# Altium schematic symbol library RC0805.SchLib: 789 symbols (part 7 of 11)
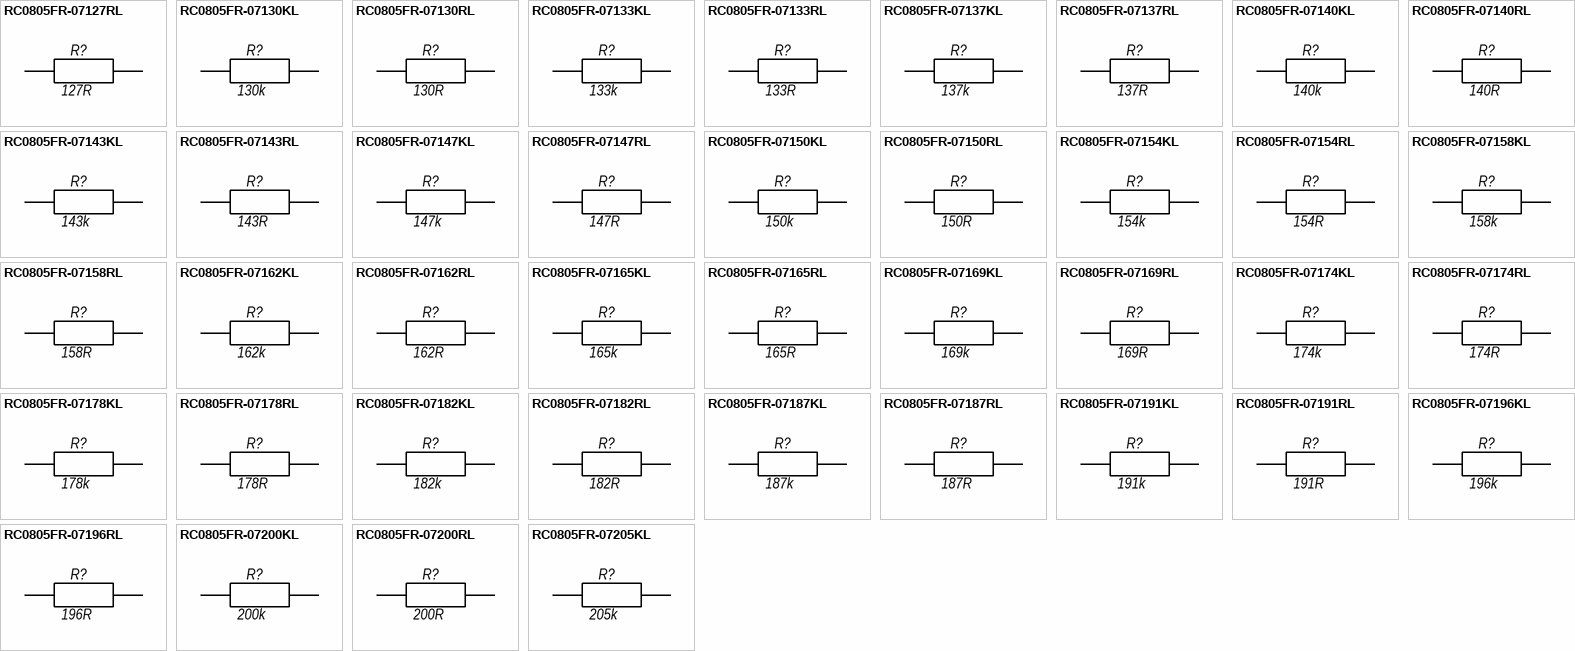
[diagram p25: symbols RC0805FR-07127RL to RC0805FR-07205KL]

## RC0805FR-07178RL
designator R?, comment 178R
RC0805FR-07178RL 0805 178 Ohm ±1% 1/8W 0805 SMD -55C...+155C; Manufacturer: Yageo; BOM2: 178 Ом ±1%, 1/8 Вт, SMD 0805, RC0805FR-07178RL; ValueBOM: RC0805FR-07178RL   Yageo                            (178 Ом ±1%, 1/8 Вт, SMD 0805, RC0805FR-07178RL); Value: 178R; Part Number: RC0805FR-07178RL; Package: 0805; BOM1: 178 Ohm ±1% 1/8W 0805 SMD
footprint RESC_0805_2012N (Chip Resistor, Body 2.0x1.3mm, IPC Medium Density)
footprint RESC_0805_2012M (Chip Resistor, Body 2.0x1.3mm, IPC Low Density)
footprint RESC_0805_2012L (Chip Resistor, Body 2.0x1.3mm, IPC High Density)
pins: 1, 2

## RC0805FR-07182KL
designator R?, comment 182k
RC0805FR-07182KL 0805 182 kOhm ±1% 1/8W 0805 SMD -55C...+155C; Manufacturer: Yageo; BOM2: 182 кОм ±1%, 1/8 Вт, SMD 0805, RC0805FR-07182KL; ValueBOM: RC0805FR-07182KL   Yageo                            (182 кОм ±1%, 1/8 Вт, SMD 0805, RC0805FR-07182KL); Value: 182k; Part Number: RC0805FR-07182KL; Package: 0805; BOM1: 182 kOhm ±1% 1/8W 0805 SMD
footprint RESC_0805_2012N (Chip Resistor, Body 2.0x1.3mm, IPC Medium Density)
footprint RESC_0805_2012M (Chip Resistor, Body 2.0x1.3mm, IPC Low Density)
footprint RESC_0805_2012L (Chip Resistor, Body 2.0x1.3mm, IPC High Density)
pins: 1, 2

## RC0805FR-07182RL
designator R?, comment 182R
RC0805FR-07182RL 0805 182 Ohm ±1% 1/8W 0805 SMD -55C...+155C; Manufacturer: Yageo; BOM2: 182 Ом ±1%, 1/8 Вт, SMD 0805, RC0805FR-07182RL; ValueBOM: RC0805FR-07182RL   Yageo                            (182 Ом ±1%, 1/8 Вт, SMD 0805, RC0805FR-07182RL); Value: 182R; Part Number: RC0805FR-07182RL; Package: 0805; BOM1: 182 Ohm ±1% 1/8W 0805 SMD
footprint RESC_0805_2012N (Chip Resistor, Body 2.0x1.3mm, IPC Medium Density)
footprint RESC_0805_2012M (Chip Resistor, Body 2.0x1.3mm, IPC Low Density)
footprint RESC_0805_2012L (Chip Resistor, Body 2.0x1.3mm, IPC High Density)
pins: 1, 2

## RC0805FR-07187KL
designator R?, comment 187k
RC0805FR-07187KL 0805 187 kOhm ±1% 1/8W 0805 SMD -55C...+155C; Manufacturer: Yageo; BOM2: 187 кОм ±1%, 1/8 Вт, SMD 0805, RC0805FR-07187KL; ValueBOM: RC0805FR-07187KL   Yageo                            (187 кОм ±1%, 1/8 Вт, SMD 0805, RC0805FR-07187KL); Value: 187k; Part Number: RC0805FR-07187KL; Package: 0805; BOM1: 187 kOhm ±1% 1/8W 0805 SMD
footprint RESC_0805_2012N (Chip Resistor, Body 2.0x1.3mm, IPC Medium Density)
footprint RESC_0805_2012M (Chip Resistor, Body 2.0x1.3mm, IPC Low Density)
footprint RESC_0805_2012L (Chip Resistor, Body 2.0x1.3mm, IPC High Density)
pins: 1, 2

## RC0805FR-07187RL
designator R?, comment 187R
RC0805FR-07187RL 0805 187 Ohm ±1% 1/8W 0805 SMD -55C...+155C; Manufacturer: Yageo; BOM2: 187 Ом ±1%, 1/8 Вт, SMD 0805, RC0805FR-07187RL; ValueBOM: RC0805FR-07187RL   Yageo                            (187 Ом ±1%, 1/8 Вт, SMD 0805, RC0805FR-07187RL); Value: 187R; Part Number: RC0805FR-07187RL; Package: 0805; BOM1: 187 Ohm ±1% 1/8W 0805 SMD
footprint RESC_0805_2012N (Chip Resistor, Body 2.0x1.3mm, IPC Medium Density)
footprint RESC_0805_2012M (Chip Resistor, Body 2.0x1.3mm, IPC Low Density)
footprint RESC_0805_2012L (Chip Resistor, Body 2.0x1.3mm, IPC High Density)
pins: 1, 2

## RC0805FR-07191KL
designator R?, comment 191k
RC0805FR-07191KL 0805 191 kOhm ±1% 1/8W 0805 SMD -55C...+155C; Manufacturer: Yageo; BOM2: 191 кОм ±1%, 1/8 Вт, SMD 0805, RC0805FR-07191KL; ValueBOM: RC0805FR-07191KL   Yageo                            (191 кОм ±1%, 1/8 Вт, SMD 0805, RC0805FR-07191KL); Value: 191k; Part Number: RC0805FR-07191KL; Package: 0805; BOM1: 191 kOhm ±1% 1/8W 0805 SMD
footprint RESC_0805_2012N (Chip Resistor, Body 2.0x1.3mm, IPC Medium Density)
footprint RESC_0805_2012M (Chip Resistor, Body 2.0x1.3mm, IPC Low Density)
footprint RESC_0805_2012L (Chip Resistor, Body 2.0x1.3mm, IPC High Density)
pins: 1, 2

## RC0805FR-07191RL
designator R?, comment 191R
RC0805FR-07191RL 0805 191 Ohm ±1% 1/8W 0805 SMD -55C...+155C; Manufacturer: Yageo; BOM2: 191 Ом ±1%, 1/8 Вт, SMD 0805, RC0805FR-07191RL; ValueBOM: RC0805FR-07191RL   Yageo                            (191 Ом ±1%, 1/8 Вт, SMD 0805, RC0805FR-07191RL); Value: 191R; Part Number: RC0805FR-07191RL; Package: 0805; BOM1: 191 Ohm ±1% 1/8W 0805 SMD
footprint RESC_0805_2012N (Chip Resistor, Body 2.0x1.3mm, IPC Medium Density)
footprint RESC_0805_2012M (Chip Resistor, Body 2.0x1.3mm, IPC Low Density)
footprint RESC_0805_2012L (Chip Resistor, Body 2.0x1.3mm, IPC High Density)
pins: 1, 2

## RC0805FR-07196KL
designator R?, comment 196k
RC0805FR-07196KL 0805 196 kOhm ±1% 1/8W 0805 SMD -55C...+155C; Manufacturer: Yageo; BOM2: 196 кОм ±1%, 1/8 Вт, SMD 0805, RC0805FR-07196KL; ValueBOM: RC0805FR-07196KL   Yageo                            (196 кОм ±1%, 1/8 Вт, SMD 0805, RC0805FR-07196KL); Value: 196k; Part Number: RC0805FR-07196KL; Package: 0805; BOM1: 196 kOhm ±1% 1/8W 0805 SMD
footprint RESC_0805_2012N (Chip Resistor, Body 2.0x1.3mm, IPC Medium Density)
footprint RESC_0805_2012M (Chip Resistor, Body 2.0x1.3mm, IPC Low Density)
footprint RESC_0805_2012L (Chip Resistor, Body 2.0x1.3mm, IPC High Density)
pins: 1, 2

## RC0805FR-07196RL
designator R?, comment 196R
RC0805FR-07196RL 0805 196 Ohm ±1% 1/8W 0805 SMD -55C...+155C; Manufacturer: Yageo; BOM2: 196 Ом ±1%, 1/8 Вт, SMD 0805, RC0805FR-07196RL; ValueBOM: RC0805FR-07196RL   Yageo                            (196 Ом ±1%, 1/8 Вт, SMD 0805, RC0805FR-07196RL); Value: 196R; Part Number: RC0805FR-07196RL; Package: 0805; BOM1: 196 Ohm ±1% 1/8W 0805 SMD
footprint RESC_0805_2012N (Chip Resistor, Body 2.0x1.3mm, IPC Medium Density)
footprint RESC_0805_2012M (Chip Resistor, Body 2.0x1.3mm, IPC Low Density)
footprint RESC_0805_2012L (Chip Resistor, Body 2.0x1.3mm, IPC High Density)
pins: 1, 2

## RC0805FR-07200KL
designator R?, comment 200k
RC0805FR-07200KL 0805 200 kOhm ±1% 1/8W 0805 SMD -55C...+155C; Manufacturer: Yageo; BOM2: 200 кОм ±1%, 1/8 Вт, SMD 0805, RC0805FR-07200KL; ValueBOM: RC0805FR-07200KL   Yageo                            (200 кОм ±1%, 1/8 Вт, SMD 0805, RC0805FR-07200KL); Value: 200k; Part Number: RC0805FR-07200KL; Package: 0805; BOM1: 200 kOhm ±1% 1/8W 0805 SMD
footprint RESC_0805_2012N (Chip Resistor, Body 2.0x1.3mm, IPC Medium Density)
footprint RESC_0805_2012M (Chip Resistor, Body 2.0x1.3mm, IPC Low Density)
footprint RESC_0805_2012L (Chip Resistor, Body 2.0x1.3mm, IPC High Density)
pins: 1, 2

## RC0805FR-07200RL
designator R?, comment 200R
RC0805FR-07200RL 0805 200 Ohm ±1% 1/8W 0805 SMD -55C...+155C; Manufacturer: Yageo; BOM2: 200 Ом ±1%, 1/8 Вт, SMD 0805, RC0805FR-07200RL; ValueBOM: RC0805FR-07200RL   Yageo                            (200 Ом ±1%, 1/8 Вт, SMD 0805, RC0805FR-07200RL); Value: 200R; Part Number: RC0805FR-07200RL; Package: 0805; BOM1: 200 Ohm ±1% 1/8W 0805 SMD
footprint RESC_0805_2012N (Chip Resistor, Body 2.0x1.3mm, IPC Medium Density)
footprint RESC_0805_2012M (Chip Resistor, Body 2.0x1.3mm, IPC Low Density)
footprint RESC_0805_2012L (Chip Resistor, Body 2.0x1.3mm, IPC High Density)
pins: 1, 2

## RC0805FR-07205KL
designator R?, comment 205k
RC0805FR-07205KL 0805 205 kOhm ±1% 1/8W 0805 SMD -55C...+155C; Manufacturer: Yageo; BOM2: 205 кОм ±1%, 1/8 Вт, SMD 0805, RC0805FR-07205KL; ValueBOM: RC0805FR-07205KL   Yageo                            (205 кОм ±1%, 1/8 Вт, SMD 0805, RC0805FR-07205KL); Value: 205k; Part Number: RC0805FR-07205KL; Package: 0805; BOM1: 205 kOhm ±1% 1/8W 0805 SMD
footprint RESC_0805_2012N (Chip Resistor, Body 2.0x1.3mm, IPC Medium Density)
footprint RESC_0805_2012M (Chip Resistor, Body 2.0x1.3mm, IPC Low Density)
footprint RESC_0805_2012L (Chip Resistor, Body 2.0x1.3mm, IPC High Density)
pins: 1, 2

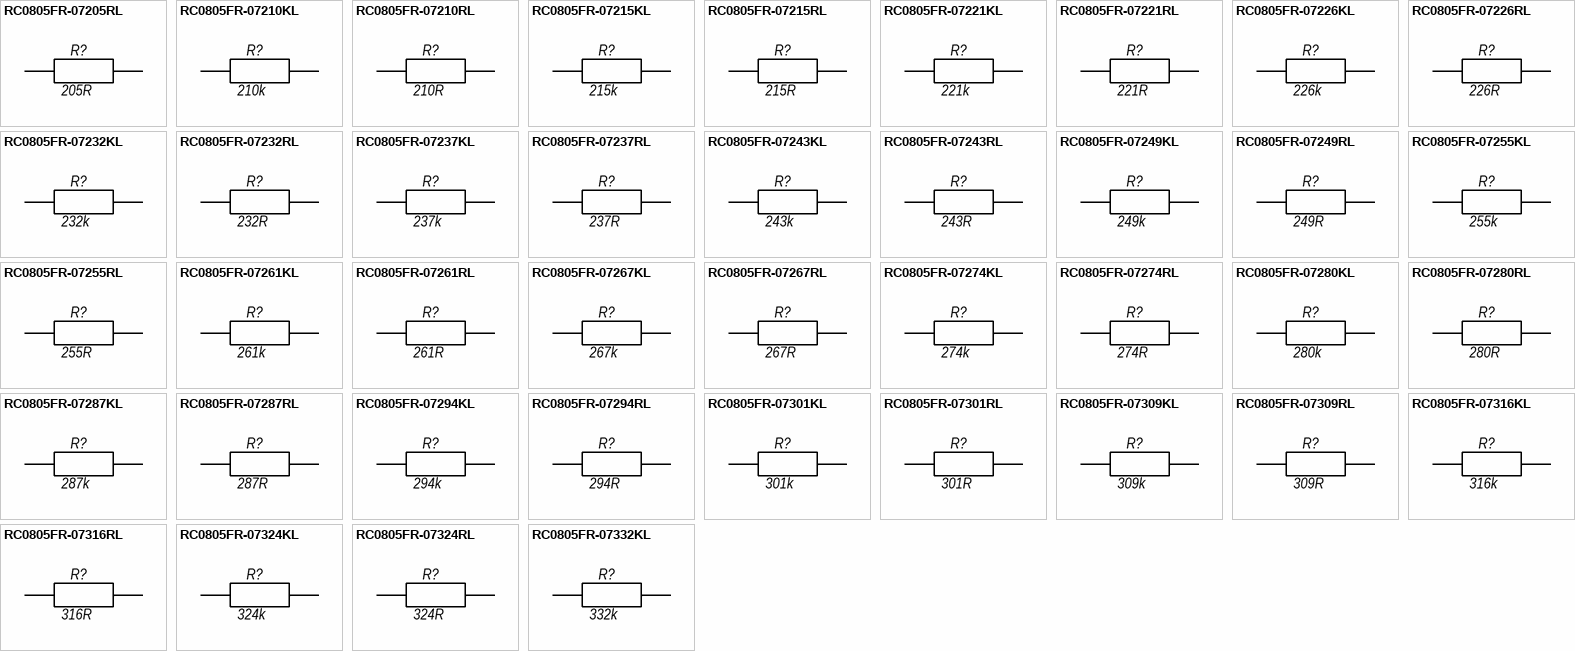
[diagram p12: symbols RC0805FR-07205RL to RC0805FR-07332KL]

## RC0805FR-07205RL
designator R?, comment 205R
RC0805FR-07205RL 0805 205 Ohm ±1% 1/8W 0805 SMD -55C...+155C; Manufacturer: Yageo; BOM2: 205 Ом ±1%, 1/8 Вт, SMD 0805, RC0805FR-07205RL; ValueBOM: RC0805FR-07205RL   Yageo                            (205 Ом ±1%, 1/8 Вт, SMD 0805, RC0805FR-07205RL); Value: 205R; Part Number: RC0805FR-07205RL; Package: 0805; BOM1: 205 Ohm ±1% 1/8W 0805 SMD
footprint RESC_0805_2012N (Chip Resistor, Body 2.0x1.3mm, IPC Medium Density)
footprint RESC_0805_2012M (Chip Resistor, Body 2.0x1.3mm, IPC Low Density)
footprint RESC_0805_2012L (Chip Resistor, Body 2.0x1.3mm, IPC High Density)
pins: 1, 2

## RC0805FR-07210KL
designator R?, comment 210k
RC0805FR-07210KL 0805 210 kOhm ±1% 1/8W 0805 SMD -55C...+155C; Manufacturer: Yageo; BOM2: 210 кОм ±1%, 1/8 Вт, SMD 0805, RC0805FR-07210KL; ValueBOM: RC0805FR-07210KL   Yageo                            (210 кОм ±1%, 1/8 Вт, SMD 0805, RC0805FR-07210KL); Value: 210k; Part Number: RC0805FR-07210KL; Package: 0805; BOM1: 210 kOhm ±1% 1/8W 0805 SMD
footprint RESC_0805_2012N (Chip Resistor, Body 2.0x1.3mm, IPC Medium Density)
footprint RESC_0805_2012M (Chip Resistor, Body 2.0x1.3mm, IPC Low Density)
footprint RESC_0805_2012L (Chip Resistor, Body 2.0x1.3mm, IPC High Density)
pins: 1, 2

## RC0805FR-07210RL
designator R?, comment 210R
RC0805FR-07210RL 0805 210 Ohm ±1% 1/8W 0805 SMD -55C...+155C; Manufacturer: Yageo; BOM2: 210 Ом ±1%, 1/8 Вт, SMD 0805, RC0805FR-07210RL; ValueBOM: RC0805FR-07210RL   Yageo                            (210 Ом ±1%, 1/8 Вт, SMD 0805, RC0805FR-07210RL); Value: 210R; Part Number: RC0805FR-07210RL; Package: 0805; BOM1: 210 Ohm ±1% 1/8W 0805 SMD
footprint RESC_0805_2012N (Chip Resistor, Body 2.0x1.3mm, IPC Medium Density)
footprint RESC_0805_2012M (Chip Resistor, Body 2.0x1.3mm, IPC Low Density)
footprint RESC_0805_2012L (Chip Resistor, Body 2.0x1.3mm, IPC High Density)
pins: 1, 2

## RC0805FR-07215KL
designator R?, comment 215k
RC0805FR-07215KL 0805 215 kOhm ±1% 1/8W 0805 SMD -55C...+155C; Manufacturer: Yageo; BOM2: 215 кОм ±1%, 1/8 Вт, SMD 0805, RC0805FR-07215KL; ValueBOM: RC0805FR-07215KL   Yageo                            (215 кОм ±1%, 1/8 Вт, SMD 0805, RC0805FR-07215KL); Value: 215k; Part Number: RC0805FR-07215KL; Package: 0805; BOM1: 215 kOhm ±1% 1/8W 0805 SMD
footprint RESC_0805_2012N (Chip Resistor, Body 2.0x1.3mm, IPC Medium Density)
footprint RESC_0805_2012M (Chip Resistor, Body 2.0x1.3mm, IPC Low Density)
footprint RESC_0805_2012L (Chip Resistor, Body 2.0x1.3mm, IPC High Density)
pins: 1, 2

## RC0805FR-07215RL
designator R?, comment 215R
RC0805FR-07215RL 0805 215 Ohm ±1% 1/8W 0805 SMD -55C...+155C; Manufacturer: Yageo; BOM2: 215 Ом ±1%, 1/8 Вт, SMD 0805, RC0805FR-07215RL; ValueBOM: RC0805FR-07215RL   Yageo                            (215 Ом ±1%, 1/8 Вт, SMD 0805, RC0805FR-07215RL); Value: 215R; Part Number: RC0805FR-07215RL; Package: 0805; BOM1: 215 Ohm ±1% 1/8W 0805 SMD
footprint RESC_0805_2012N (Chip Resistor, Body 2.0x1.3mm, IPC Medium Density)
footprint RESC_0805_2012M (Chip Resistor, Body 2.0x1.3mm, IPC Low Density)
footprint RESC_0805_2012L (Chip Resistor, Body 2.0x1.3mm, IPC High Density)
pins: 1, 2

## RC0805FR-07221KL
designator R?, comment 221k
RC0805FR-07221KL 0805 221 kOhm ±1% 1/8W 0805 SMD -55C...+155C; Manufacturer: Yageo; BOM2: 221 кОм ±1%, 1/8 Вт, SMD 0805, RC0805FR-07221KL; ValueBOM: RC0805FR-07221KL   Yageo                            (221 кОм ±1%, 1/8 Вт, SMD 0805, RC0805FR-07221KL); Value: 221k; Part Number: RC0805FR-07221KL; Package: 0805; BOM1: 221 kOhm ±1% 1/8W 0805 SMD
footprint RESC_0805_2012N (Chip Resistor, Body 2.0x1.3mm, IPC Medium Density)
footprint RESC_0805_2012M (Chip Resistor, Body 2.0x1.3mm, IPC Low Density)
footprint RESC_0805_2012L (Chip Resistor, Body 2.0x1.3mm, IPC High Density)
pins: 1, 2

## RC0805FR-07221RL
designator R?, comment 221R
RC0805FR-07221RL 0805 221 Ohm ±1% 1/8W 0805 SMD -55C...+155C; Manufacturer: Yageo; BOM2: 221 Ом ±1%, 1/8 Вт, SMD 0805, RC0805FR-07221RL; ValueBOM: RC0805FR-07221RL   Yageo                            (221 Ом ±1%, 1/8 Вт, SMD 0805, RC0805FR-07221RL); Value: 221R; Part Number: RC0805FR-07221RL; Package: 0805; BOM1: 221 Ohm ±1% 1/8W 0805 SMD
footprint RESC_0805_2012N (Chip Resistor, Body 2.0x1.3mm, IPC Medium Density)
footprint RESC_0805_2012M (Chip Resistor, Body 2.0x1.3mm, IPC Low Density)
footprint RESC_0805_2012L (Chip Resistor, Body 2.0x1.3mm, IPC High Density)
pins: 1, 2

## RC0805FR-07226KL
designator R?, comment 226k
RC0805FR-07226KL 0805 226 kOhm ±1% 1/8W 0805 SMD -55C...+155C; Manufacturer: Yageo; BOM2: 226 кОм ±1%, 1/8 Вт, SMD 0805, RC0805FR-07226KL; ValueBOM: RC0805FR-07226KL   Yageo                            (226 кОм ±1%, 1/8 Вт, SMD 0805, RC0805FR-07226KL); Value: 226k; Part Number: RC0805FR-07226KL; Package: 0805; BOM1: 226 kOhm ±1% 1/8W 0805 SMD
footprint RESC_0805_2012N (Chip Resistor, Body 2.0x1.3mm, IPC Medium Density)
footprint RESC_0805_2012M (Chip Resistor, Body 2.0x1.3mm, IPC Low Density)
footprint RESC_0805_2012L (Chip Resistor, Body 2.0x1.3mm, IPC High Density)
pins: 1, 2

## RC0805FR-07226RL
designator R?, comment 226R
RC0805FR-07226RL 0805 226 Ohm ±1% 1/8W 0805 SMD -55C...+155C; Manufacturer: Yageo; BOM2: 226 Ом ±1%, 1/8 Вт, SMD 0805, RC0805FR-07226RL; ValueBOM: RC0805FR-07226RL   Yageo                            (226 Ом ±1%, 1/8 Вт, SMD 0805, RC0805FR-07226RL); Value: 226R; Part Number: RC0805FR-07226RL; Package: 0805; BOM1: 226 Ohm ±1% 1/8W 0805 SMD
footprint RESC_0805_2012N (Chip Resistor, Body 2.0x1.3mm, IPC Medium Density)
footprint RESC_0805_2012M (Chip Resistor, Body 2.0x1.3mm, IPC Low Density)
footprint RESC_0805_2012L (Chip Resistor, Body 2.0x1.3mm, IPC High Density)
pins: 1, 2

## RC0805FR-07232KL
designator R?, comment 232k
RC0805FR-07232KL 0805 232 kOhm ±1% 1/8W 0805 SMD -55C...+155C; Manufacturer: Yageo; BOM2: 232 кОм ±1%, 1/8 Вт, SMD 0805, RC0805FR-07232KL; ValueBOM: RC0805FR-07232KL   Yageo                            (232 кОм ±1%, 1/8 Вт, SMD 0805, RC0805FR-07232KL); Value: 232k; Part Number: RC0805FR-07232KL; Package: 0805; BOM1: 232 kOhm ±1% 1/8W 0805 SMD
footprint RESC_0805_2012N (Chip Resistor, Body 2.0x1.3mm, IPC Medium Density)
footprint RESC_0805_2012M (Chip Resistor, Body 2.0x1.3mm, IPC Low Density)
footprint RESC_0805_2012L (Chip Resistor, Body 2.0x1.3mm, IPC High Density)
pins: 1, 2

## RC0805FR-07232RL
designator R?, comment 232R
RC0805FR-07232RL 0805 232 Ohm ±1% 1/8W 0805 SMD -55C...+155C; Manufacturer: Yageo; BOM2: 232 Ом ±1%, 1/8 Вт, SMD 0805, RC0805FR-07232RL; ValueBOM: RC0805FR-07232RL   Yageo                            (232 Ом ±1%, 1/8 Вт, SMD 0805, RC0805FR-07232RL); Value: 232R; Part Number: RC0805FR-07232RL; Package: 0805; BOM1: 232 Ohm ±1% 1/8W 0805 SMD
footprint RESC_0805_2012N (Chip Resistor, Body 2.0x1.3mm, IPC Medium Density)
footprint RESC_0805_2012M (Chip Resistor, Body 2.0x1.3mm, IPC Low Density)
footprint RESC_0805_2012L (Chip Resistor, Body 2.0x1.3mm, IPC High Density)
pins: 1, 2

## RC0805FR-07237KL
designator R?, comment 237k
RC0805FR-07237KL 0805 237 kOhm ±1% 1/8W 0805 SMD -55C...+155C; Manufacturer: Yageo; BOM2: 237 кОм ±1%, 1/8 Вт, SMD 0805, RC0805FR-07237KL; ValueBOM: RC0805FR-07237KL   Yageo                            (237 кОм ±1%, 1/8 Вт, SMD 0805, RC0805FR-07237KL); Value: 237k; Part Number: RC0805FR-07237KL; Package: 0805; BOM1: 237 kOhm ±1% 1/8W 0805 SMD
footprint RESC_0805_2012N (Chip Resistor, Body 2.0x1.3mm, IPC Medium Density)
footprint RESC_0805_2012M (Chip Resistor, Body 2.0x1.3mm, IPC Low Density)
footprint RESC_0805_2012L (Chip Resistor, Body 2.0x1.3mm, IPC High Density)
pins: 1, 2

## RC0805FR-07237RL
designator R?, comment 237R
RC0805FR-07237RL 0805 237 Ohm ±1% 1/8W 0805 SMD -55C...+155C; Manufacturer: Yageo; BOM2: 237 Ом ±1%, 1/8 Вт, SMD 0805, RC0805FR-07237RL; ValueBOM: RC0805FR-07237RL   Yageo                            (237 Ом ±1%, 1/8 Вт, SMD 0805, RC0805FR-07237RL); Value: 237R; Part Number: RC0805FR-07237RL; Package: 0805; BOM1: 237 Ohm ±1% 1/8W 0805 SMD
footprint RESC_0805_2012N (Chip Resistor, Body 2.0x1.3mm, IPC Medium Density)
footprint RESC_0805_2012M (Chip Resistor, Body 2.0x1.3mm, IPC Low Density)
footprint RESC_0805_2012L (Chip Resistor, Body 2.0x1.3mm, IPC High Density)
pins: 1, 2

## RC0805FR-07243KL
designator R?, comment 243k
RC0805FR-07243KL 0805 243 kOhm ±1% 1/8W 0805 SMD -55C...+155C; Manufacturer: Yageo; BOM2: 243 кОм ±1%, 1/8 Вт, SMD 0805, RC0805FR-07243KL; ValueBOM: RC0805FR-07243KL   Yageo                            (243 кОм ±1%, 1/8 Вт, SMD 0805, RC0805FR-07243KL); Value: 243k; Part Number: RC0805FR-07243KL; Package: 0805; BOM1: 243 kOhm ±1% 1/8W 0805 SMD
footprint RESC_0805_2012N (Chip Resistor, Body 2.0x1.3mm, IPC Medium Density)
footprint RESC_0805_2012M (Chip Resistor, Body 2.0x1.3mm, IPC Low Density)
footprint RESC_0805_2012L (Chip Resistor, Body 2.0x1.3mm, IPC High Density)
pins: 1, 2

## RC0805FR-07243RL
designator R?, comment 243R
RC0805FR-07243RL 0805 243 Ohm ±1% 1/8W 0805 SMD -55C...+155C; Manufacturer: Yageo; BOM2: 243 Ом ±1%, 1/8 Вт, SMD 0805, RC0805FR-07243RL; ValueBOM: RC0805FR-07243RL   Yageo                            (243 Ом ±1%, 1/8 Вт, SMD 0805, RC0805FR-07243RL); Value: 243R; Part Number: RC0805FR-07243RL; Package: 0805; BOM1: 243 Ohm ±1% 1/8W 0805 SMD
footprint RESC_0805_2012N (Chip Resistor, Body 2.0x1.3mm, IPC Medium Density)
footprint RESC_0805_2012M (Chip Resistor, Body 2.0x1.3mm, IPC Low Density)
footprint RESC_0805_2012L (Chip Resistor, Body 2.0x1.3mm, IPC High Density)
pins: 1, 2

## RC0805FR-07249KL
designator R?, comment 249k
RC0805FR-07249KL 0805 249 kOhm ±1% 1/8W 0805 SMD -55C...+155C; Manufacturer: Yageo; BOM2: 249 кОм ±1%, 1/8 Вт, SMD 0805, RC0805FR-07249KL; ValueBOM: RC0805FR-07249KL   Yageo                            (249 кОм ±1%, 1/8 Вт, SMD 0805, RC0805FR-07249KL); Value: 249k; Part Number: RC0805FR-07249KL; Package: 0805; BOM1: 249 kOhm ±1% 1/8W 0805 SMD
footprint RESC_0805_2012N (Chip Resistor, Body 2.0x1.3mm, IPC Medium Density)
footprint RESC_0805_2012M (Chip Resistor, Body 2.0x1.3mm, IPC Low Density)
footprint RESC_0805_2012L (Chip Resistor, Body 2.0x1.3mm, IPC High Density)
pins: 1, 2

## RC0805FR-07249RL
designator R?, comment 249R
RC0805FR-07249RL 0805 249 Ohm ±1% 1/8W 0805 SMD -55C...+155C; Manufacturer: Yageo; BOM2: 249 Ом ±1%, 1/8 Вт, SMD 0805, RC0805FR-07249RL; ValueBOM: RC0805FR-07249RL   Yageo                            (249 Ом ±1%, 1/8 Вт, SMD 0805, RC0805FR-07249RL); Value: 249R; Part Number: RC0805FR-07249RL; Package: 0805; BOM1: 249 Ohm ±1% 1/8W 0805 SMD
footprint RESC_0805_2012N (Chip Resistor, Body 2.0x1.3mm, IPC Medium Density)
footprint RESC_0805_2012M (Chip Resistor, Body 2.0x1.3mm, IPC Low Density)
footprint RESC_0805_2012L (Chip Resistor, Body 2.0x1.3mm, IPC High Density)
pins: 1, 2

## RC0805FR-07255KL
designator R?, comment 255k
RC0805FR-07255KL 0805 255 kOhm ±1% 1/8W 0805 SMD -55C...+155C; Manufacturer: Yageo; BOM2: 255 кОм ±1%, 1/8 Вт, SMD 0805, RC0805FR-07255KL; ValueBOM: RC0805FR-07255KL   Yageo                            (255 кОм ±1%, 1/8 Вт, SMD 0805, RC0805FR-07255KL); Value: 255k; Part Number: RC0805FR-07255KL; Package: 0805; BOM1: 255 kOhm ±1% 1/8W 0805 SMD
footprint RESC_0805_2012N (Chip Resistor, Body 2.0x1.3mm, IPC Medium Density)
footprint RESC_0805_2012M (Chip Resistor, Body 2.0x1.3mm, IPC Low Density)
footprint RESC_0805_2012L (Chip Resistor, Body 2.0x1.3mm, IPC High Density)
pins: 1, 2

## RC0805FR-07255RL
designator R?, comment 255R
RC0805FR-07255RL 0805 255 Ohm ±1% 1/8W 0805 SMD -55C...+155C; Manufacturer: Yageo; BOM2: 255 Ом ±1%, 1/8 Вт, SMD 0805, RC0805FR-07255RL; ValueBOM: RC0805FR-07255RL   Yageo                            (255 Ом ±1%, 1/8 Вт, SMD 0805, RC0805FR-07255RL); Value: 255R; Part Number: RC0805FR-07255RL; Package: 0805; BOM1: 255 Ohm ±1% 1/8W 0805 SMD
footprint RESC_0805_2012N (Chip Resistor, Body 2.0x1.3mm, IPC Medium Density)
footprint RESC_0805_2012M (Chip Resistor, Body 2.0x1.3mm, IPC Low Density)
footprint RESC_0805_2012L (Chip Resistor, Body 2.0x1.3mm, IPC High Density)
pins: 1, 2

## RC0805FR-07261KL
designator R?, comment 261k
RC0805FR-07261KL 0805 261 kOhm ±1% 1/8W 0805 SMD -55C...+155C; Manufacturer: Yageo; BOM2: 261 кОм ±1%, 1/8 Вт, SMD 0805, RC0805FR-07261KL; ValueBOM: RC0805FR-07261KL   Yageo                            (261 кОм ±1%, 1/8 Вт, SMD 0805, RC0805FR-07261KL); Value: 261k; Part Number: RC0805FR-07261KL; Package: 0805; BOM1: 261 kOhm ±1% 1/8W 0805 SMD
footprint RESC_0805_2012N (Chip Resistor, Body 2.0x1.3mm, IPC Medium Density)
footprint RESC_0805_2012M (Chip Resistor, Body 2.0x1.3mm, IPC Low Density)
footprint RESC_0805_2012L (Chip Resistor, Body 2.0x1.3mm, IPC High Density)
pins: 1, 2

## RC0805FR-07261RL
designator R?, comment 261R
RC0805FR-07261RL 0805 261 Ohm ±1% 1/8W 0805 SMD -55C...+155C; Manufacturer: Yageo; BOM2: 261 Ом ±1%, 1/8 Вт, SMD 0805, RC0805FR-07261RL; ValueBOM: RC0805FR-07261RL   Yageo                            (261 Ом ±1%, 1/8 Вт, SMD 0805, RC0805FR-07261RL); Value: 261R; Part Number: RC0805FR-07261RL; Package: 0805; BOM1: 261 Ohm ±1% 1/8W 0805 SMD
footprint RESC_0805_2012N (Chip Resistor, Body 2.0x1.3mm, IPC Medium Density)
footprint RESC_0805_2012M (Chip Resistor, Body 2.0x1.3mm, IPC Low Density)
footprint RESC_0805_2012L (Chip Resistor, Body 2.0x1.3mm, IPC High Density)
pins: 1, 2

## RC0805FR-07267KL
designator R?, comment 267k
RC0805FR-07267KL 0805 267 kOhm ±1% 1/8W 0805 SMD -55C...+155C; Manufacturer: Yageo; BOM2: 267 кОм ±1%, 1/8 Вт, SMD 0805, RC0805FR-07267KL; ValueBOM: RC0805FR-07267KL   Yageo                            (267 кОм ±1%, 1/8 Вт, SMD 0805, RC0805FR-07267KL); Value: 267k; Part Number: RC0805FR-07267KL; Package: 0805; BOM1: 267 kOhm ±1% 1/8W 0805 SMD
footprint RESC_0805_2012N (Chip Resistor, Body 2.0x1.3mm, IPC Medium Density)
footprint RESC_0805_2012M (Chip Resistor, Body 2.0x1.3mm, IPC Low Density)
footprint RESC_0805_2012L (Chip Resistor, Body 2.0x1.3mm, IPC High Density)
pins: 1, 2

## RC0805FR-07267RL
designator R?, comment 267R
RC0805FR-07267RL 0805 267 Ohm ±1% 1/8W 0805 SMD -55C...+155C; Manufacturer: Yageo; BOM2: 267 Ом ±1%, 1/8 Вт, SMD 0805, RC0805FR-07267RL; ValueBOM: RC0805FR-07267RL   Yageo                            (267 Ом ±1%, 1/8 Вт, SMD 0805, RC0805FR-07267RL); Value: 267R; Part Number: RC0805FR-07267RL; Package: 0805; BOM1: 267 Ohm ±1% 1/8W 0805 SMD
footprint RESC_0805_2012N (Chip Resistor, Body 2.0x1.3mm, IPC Medium Density)
footprint RESC_0805_2012M (Chip Resistor, Body 2.0x1.3mm, IPC Low Density)
footprint RESC_0805_2012L (Chip Resistor, Body 2.0x1.3mm, IPC High Density)
pins: 1, 2

## RC0805FR-07274KL
designator R?, comment 274k
RC0805FR-07274KL 0805 274 kOhm ±1% 1/8W 0805 SMD -55C...+155C; Manufacturer: Yageo; BOM2: 274 кОм ±1%, 1/8 Вт, SMD 0805, RC0805FR-07274KL; ValueBOM: RC0805FR-07274KL   Yageo                            (274 кОм ±1%, 1/8 Вт, SMD 0805, RC0805FR-07274KL); Value: 274k; Part Number: RC0805FR-07274KL; Package: 0805; BOM1: 274 kOhm ±1% 1/8W 0805 SMD
footprint RESC_0805_2012N (Chip Resistor, Body 2.0x1.3mm, IPC Medium Density)
footprint RESC_0805_2012M (Chip Resistor, Body 2.0x1.3mm, IPC Low Density)
footprint RESC_0805_2012L (Chip Resistor, Body 2.0x1.3mm, IPC High Density)
pins: 1, 2

## RC0805FR-07274RL
designator R?, comment 274R
RC0805FR-07274RL 0805 274 Ohm ±1% 1/8W 0805 SMD -55C...+155C; Manufacturer: Yageo; BOM2: 274 Ом ±1%, 1/8 Вт, SMD 0805, RC0805FR-07274RL; ValueBOM: RC0805FR-07274RL   Yageo                            (274 Ом ±1%, 1/8 Вт, SMD 0805, RC0805FR-07274RL); Value: 274R; Part Number: RC0805FR-07274RL; Package: 0805; BOM1: 274 Ohm ±1% 1/8W 0805 SMD
footprint RESC_0805_2012N (Chip Resistor, Body 2.0x1.3mm, IPC Medium Density)
footprint RESC_0805_2012M (Chip Resistor, Body 2.0x1.3mm, IPC Low Density)
footprint RESC_0805_2012L (Chip Resistor, Body 2.0x1.3mm, IPC High Density)
pins: 1, 2

## RC0805FR-07280KL
designator R?, comment 280k
RC0805FR-07280KL 0805 280 kOhm ±1% 1/8W 0805 SMD -55C...+155C; Manufacturer: Yageo; BOM2: 280 кОм ±1%, 1/8 Вт, SMD 0805, RC0805FR-07280KL; ValueBOM: RC0805FR-07280KL   Yageo                            (280 кОм ±1%, 1/8 Вт, SMD 0805, RC0805FR-07280KL); Value: 280k; Part Number: RC0805FR-07280KL; Package: 0805; BOM1: 280 kOhm ±1% 1/8W 0805 SMD
footprint RESC_0805_2012N (Chip Resistor, Body 2.0x1.3mm, IPC Medium Density)
footprint RESC_0805_2012M (Chip Resistor, Body 2.0x1.3mm, IPC Low Density)
footprint RESC_0805_2012L (Chip Resistor, Body 2.0x1.3mm, IPC High Density)
pins: 1, 2

## RC0805FR-07280RL
designator R?, comment 280R
RC0805FR-07280RL 0805 280 Ohm ±1% 1/8W 0805 SMD -55C...+155C; Manufacturer: Yageo; BOM2: 280 Ом ±1%, 1/8 Вт, SMD 0805, RC0805FR-07280RL; ValueBOM: RC0805FR-07280RL   Yageo                            (280 Ом ±1%, 1/8 Вт, SMD 0805, RC0805FR-07280RL); Value: 280R; Part Number: RC0805FR-07280RL; Package: 0805; BOM1: 280 Ohm ±1% 1/8W 0805 SMD
footprint RESC_0805_2012N (Chip Resistor, Body 2.0x1.3mm, IPC Medium Density)
footprint RESC_0805_2012M (Chip Resistor, Body 2.0x1.3mm, IPC Low Density)
footprint RESC_0805_2012L (Chip Resistor, Body 2.0x1.3mm, IPC High Density)
pins: 1, 2

## RC0805FR-07287KL
designator R?, comment 287k
RC0805FR-07287KL 0805 287 kOhm ±1% 1/8W 0805 SMD -55C...+155C; Manufacturer: Yageo; BOM2: 287 кОм ±1%, 1/8 Вт, SMD 0805, RC0805FR-07287KL; ValueBOM: RC0805FR-07287KL   Yageo                            (287 кОм ±1%, 1/8 Вт, SMD 0805, RC0805FR-07287KL); Value: 287k; Part Number: RC0805FR-07287KL; Package: 0805; BOM1: 287 kOhm ±1% 1/8W 0805 SMD
footprint RESC_0805_2012N (Chip Resistor, Body 2.0x1.3mm, IPC Medium Density)
footprint RESC_0805_2012M (Chip Resistor, Body 2.0x1.3mm, IPC Low Density)
footprint RESC_0805_2012L (Chip Resistor, Body 2.0x1.3mm, IPC High Density)
pins: 1, 2

## RC0805FR-07287RL
designator R?, comment 287R
RC0805FR-07287RL 0805 287 Ohm ±1% 1/8W 0805 SMD -55C...+155C; Manufacturer: Yageo; BOM2: 287 Ом ±1%, 1/8 Вт, SMD 0805, RC0805FR-07287RL; ValueBOM: RC0805FR-07287RL   Yageo                            (287 Ом ±1%, 1/8 Вт, SMD 0805, RC0805FR-07287RL); Value: 287R; Part Number: RC0805FR-07287RL; Package: 0805; BOM1: 287 Ohm ±1% 1/8W 0805 SMD
footprint RESC_0805_2012N (Chip Resistor, Body 2.0x1.3mm, IPC Medium Density)
footprint RESC_0805_2012M (Chip Resistor, Body 2.0x1.3mm, IPC Low Density)
footprint RESC_0805_2012L (Chip Resistor, Body 2.0x1.3mm, IPC High Density)
pins: 1, 2

## RC0805FR-07294KL
designator R?, comment 294k
RC0805FR-07294KL 0805 294 kOhm ±1% 1/8W 0805 SMD -55C...+155C; Manufacturer: Yageo; BOM2: 294 кОм ±1%, 1/8 Вт, SMD 0805, RC0805FR-07294KL; ValueBOM: RC0805FR-07294KL   Yageo                            (294 кОм ±1%, 1/8 Вт, SMD 0805, RC0805FR-07294KL); Value: 294k; Part Number: RC0805FR-07294KL; Package: 0805; BOM1: 294 kOhm ±1% 1/8W 0805 SMD
footprint RESC_0805_2012N (Chip Resistor, Body 2.0x1.3mm, IPC Medium Density)
footprint RESC_0805_2012M (Chip Resistor, Body 2.0x1.3mm, IPC Low Density)
footprint RESC_0805_2012L (Chip Resistor, Body 2.0x1.3mm, IPC High Density)
pins: 1, 2

## RC0805FR-07294RL
designator R?, comment 294R
RC0805FR-07294RL 0805 294 Ohm ±1% 1/8W 0805 SMD -55C...+155C; Manufacturer: Yageo; BOM2: 294 Ом ±1%, 1/8 Вт, SMD 0805, RC0805FR-07294RL; ValueBOM: RC0805FR-07294RL   Yageo                            (294 Ом ±1%, 1/8 Вт, SMD 0805, RC0805FR-07294RL); Value: 294R; Part Number: RC0805FR-07294RL; Package: 0805; BOM1: 294 Ohm ±1% 1/8W 0805 SMD
footprint RESC_0805_2012N (Chip Resistor, Body 2.0x1.3mm, IPC Medium Density)
footprint RESC_0805_2012M (Chip Resistor, Body 2.0x1.3mm, IPC Low Density)
footprint RESC_0805_2012L (Chip Resistor, Body 2.0x1.3mm, IPC High Density)
pins: 1, 2

## RC0805FR-07301KL
designator R?, comment 301k
RC0805FR-07301KL 0805 301 kOhm ±1% 1/8W 0805 SMD -55C...+155C; Manufacturer: Yageo; BOM2: 301 кОм ±1%, 1/8 Вт, SMD 0805, RC0805FR-07301KL; ValueBOM: RC0805FR-07301KL   Yageo                            (301 кОм ±1%, 1/8 Вт, SMD 0805, RC0805FR-07301KL); Value: 301k; Part Number: RC0805FR-07301KL; Package: 0805; BOM1: 301 kOhm ±1% 1/8W 0805 SMD
footprint RESC_0805_2012N (Chip Resistor, Body 2.0x1.3mm, IPC Medium Density)
footprint RESC_0805_2012M (Chip Resistor, Body 2.0x1.3mm, IPC Low Density)
footprint RESC_0805_2012L (Chip Resistor, Body 2.0x1.3mm, IPC High Density)
pins: 1, 2

## RC0805FR-07301RL
designator R?, comment 301R
RC0805FR-07301RL 0805 301 Ohm ±1% 1/8W 0805 SMD -55C...+155C; Manufacturer: Yageo; BOM2: 301 Ом ±1%, 1/8 Вт, SMD 0805, RC0805FR-07301RL; ValueBOM: RC0805FR-07301RL   Yageo                            (301 Ом ±1%, 1/8 Вт, SMD 0805, RC0805FR-07301RL); Value: 301R; Part Number: RC0805FR-07301RL; Package: 0805; BOM1: 301 Ohm ±1% 1/8W 0805 SMD
footprint RESC_0805_2012N (Chip Resistor, Body 2.0x1.3mm, IPC Medium Density)
footprint RESC_0805_2012M (Chip Resistor, Body 2.0x1.3mm, IPC Low Density)
footprint RESC_0805_2012L (Chip Resistor, Body 2.0x1.3mm, IPC High Density)
pins: 1, 2

## RC0805FR-07309KL
designator R?, comment 309k
RC0805FR-07309KL 0805 309 kOhm ±1% 1/8W 0805 SMD -55C...+155C; Manufacturer: Yageo; BOM2: 309 кОм ±1%, 1/8 Вт, SMD 0805, RC0805FR-07309KL; ValueBOM: RC0805FR-07309KL   Yageo                            (309 кОм ±1%, 1/8 Вт, SMD 0805, RC0805FR-07309KL); Value: 309k; Part Number: RC0805FR-07309KL; Package: 0805; BOM1: 309 kOhm ±1% 1/8W 0805 SMD
footprint RESC_0805_2012N (Chip Resistor, Body 2.0x1.3mm, IPC Medium Density)
footprint RESC_0805_2012M (Chip Resistor, Body 2.0x1.3mm, IPC Low Density)
footprint RESC_0805_2012L (Chip Resistor, Body 2.0x1.3mm, IPC High Density)
pins: 1, 2

## RC0805FR-07309RL
designator R?, comment 309R
RC0805FR-07309RL 0805 309 Ohm ±1% 1/8W 0805 SMD -55C...+155C; Manufacturer: Yageo; BOM2: 309 Ом ±1%, 1/8 Вт, SMD 0805, RC0805FR-07309RL; ValueBOM: RC0805FR-07309RL   Yageo                            (309 Ом ±1%, 1/8 Вт, SMD 0805, RC0805FR-07309RL); Value: 309R; Part Number: RC0805FR-07309RL; Package: 0805; BOM1: 309 Ohm ±1% 1/8W 0805 SMD
footprint RESC_0805_2012N (Chip Resistor, Body 2.0x1.3mm, IPC Medium Density)
footprint RESC_0805_2012M (Chip Resistor, Body 2.0x1.3mm, IPC Low Density)
footprint RESC_0805_2012L (Chip Resistor, Body 2.0x1.3mm, IPC High Density)
pins: 1, 2

## RC0805FR-07316KL
designator R?, comment 316k
RC0805FR-07316KL 0805 316 kOhm ±1% 1/8W 0805 SMD -55C...+155C; Manufacturer: Yageo; BOM2: 316 кОм ±1%, 1/8 Вт, SMD 0805, RC0805FR-07316KL; ValueBOM: RC0805FR-07316KL   Yageo                            (316 кОм ±1%, 1/8 Вт, SMD 0805, RC0805FR-07316KL); Value: 316k; Part Number: RC0805FR-07316KL; Package: 0805; BOM1: 316 kOhm ±1% 1/8W 0805 SMD
footprint RESC_0805_2012N (Chip Resistor, Body 2.0x1.3mm, IPC Medium Density)
footprint RESC_0805_2012M (Chip Resistor, Body 2.0x1.3mm, IPC Low Density)
footprint RESC_0805_2012L (Chip Resistor, Body 2.0x1.3mm, IPC High Density)
pins: 1, 2

## RC0805FR-07316RL
designator R?, comment 316R
RC0805FR-07316RL 0805 316 Ohm ±1% 1/8W 0805 SMD -55C...+155C; Manufacturer: Yageo; BOM2: 316 Ом ±1%, 1/8 Вт, SMD 0805, RC0805FR-07316RL; ValueBOM: RC0805FR-07316RL   Yageo                            (316 Ом ±1%, 1/8 Вт, SMD 0805, RC0805FR-07316RL); Value: 316R; Part Number: RC0805FR-07316RL; Package: 0805; BOM1: 316 Ohm ±1% 1/8W 0805 SMD
footprint RESC_0805_2012N (Chip Resistor, Body 2.0x1.3mm, IPC Medium Density)
footprint RESC_0805_2012M (Chip Resistor, Body 2.0x1.3mm, IPC Low Density)
footprint RESC_0805_2012L (Chip Resistor, Body 2.0x1.3mm, IPC High Density)
pins: 1, 2

## RC0805FR-07324KL
designator R?, comment 324k
RC0805FR-07324KL 0805 324 kOhm ±1% 1/8W 0805 SMD -55C...+155C; Manufacturer: Yageo; BOM2: 324 кОм ±1%, 1/8 Вт, SMD 0805, RC0805FR-07324KL; ValueBOM: RC0805FR-07324KL   Yageo                            (324 кОм ±1%, 1/8 Вт, SMD 0805, RC0805FR-07324KL); Value: 324k; Part Number: RC0805FR-07324KL; Package: 0805; BOM1: 324 kOhm ±1% 1/8W 0805 SMD
footprint RESC_0805_2012N (Chip Resistor, Body 2.0x1.3mm, IPC Medium Density)
footprint RESC_0805_2012M (Chip Resistor, Body 2.0x1.3mm, IPC Low Density)
footprint RESC_0805_2012L (Chip Resistor, Body 2.0x1.3mm, IPC High Density)
pins: 1, 2

## RC0805FR-07324RL
designator R?, comment 324R
RC0805FR-07324RL 0805 324 Ohm ±1% 1/8W 0805 SMD -55C...+155C; Manufacturer: Yageo; BOM2: 324 Ом ±1%, 1/8 Вт, SMD 0805, RC0805FR-07324RL; ValueBOM: RC0805FR-07324RL   Yageo                            (324 Ом ±1%, 1/8 Вт, SMD 0805, RC0805FR-07324RL); Value: 324R; Part Number: RC0805FR-07324RL; Package: 0805; BOM1: 324 Ohm ±1% 1/8W 0805 SMD
footprint RESC_0805_2012N (Chip Resistor, Body 2.0x1.3mm, IPC Medium Density)
footprint RESC_0805_2012M (Chip Resistor, Body 2.0x1.3mm, IPC Low Density)
footprint RESC_0805_2012L (Chip Resistor, Body 2.0x1.3mm, IPC High Density)
pins: 1, 2

## RC0805FR-07332KL
designator R?, comment 332k
RC0805FR-07332KL 0805 332 kOhm ±1% 1/8W 0805 SMD -55C...+155C; Manufacturer: Yageo; BOM2: 332 кОм ±1%, 1/8 Вт, SMD 0805, RC0805FR-07332KL; ValueBOM: RC0805FR-07332KL   Yageo                            (332 кОм ±1%, 1/8 Вт, SMD 0805, RC0805FR-07332KL); Value: 332k; Part Number: RC0805FR-07332KL; Package: 0805; BOM1: 332 kOhm ±1% 1/8W 0805 SMD
footprint RESC_0805_2012N (Chip Resistor, Body 2.0x1.3mm, IPC Medium Density)
footprint RESC_0805_2012M (Chip Resistor, Body 2.0x1.3mm, IPC Low Density)
footprint RESC_0805_2012L (Chip Resistor, Body 2.0x1.3mm, IPC High Density)
pins: 1, 2

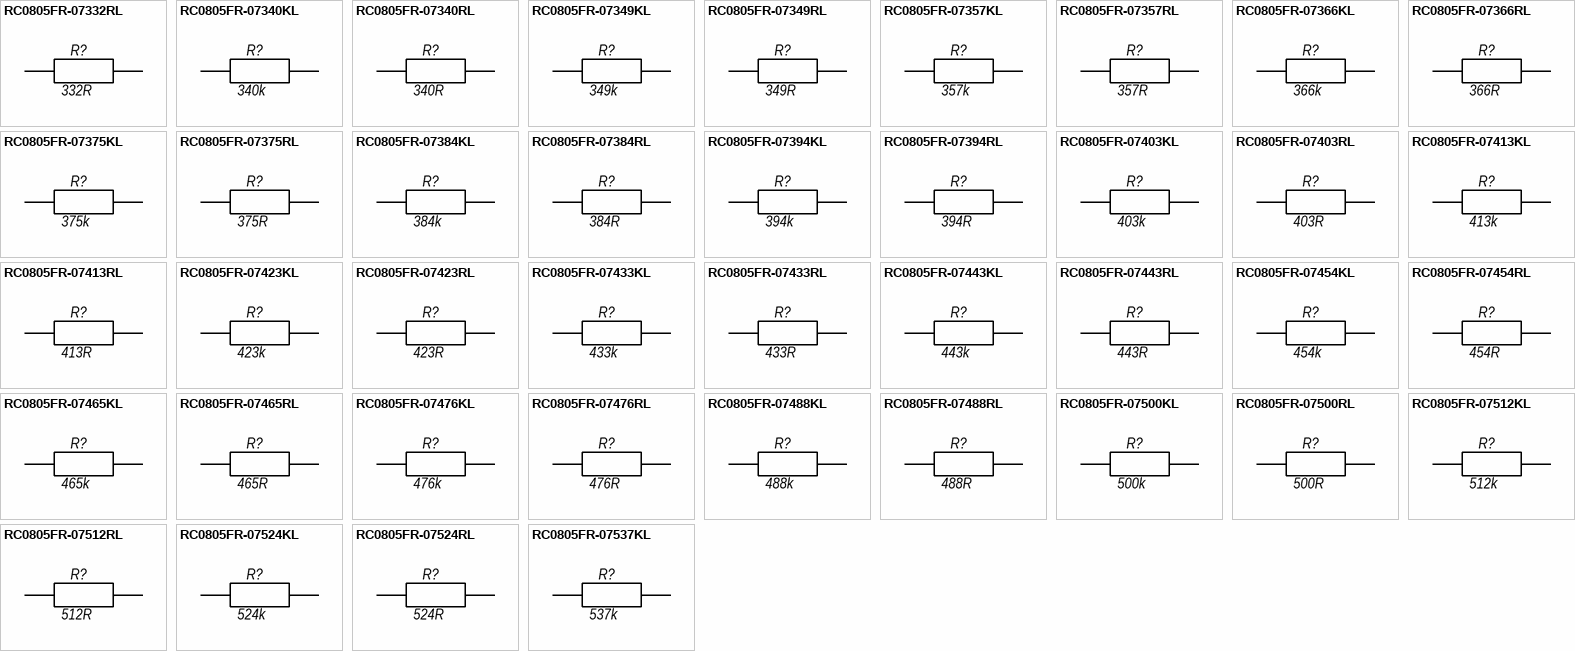
[diagram p13: symbols RC0805FR-07332RL to RC0805FR-07537KL]

## RC0805FR-07332RL
designator R?, comment 332R
RC0805FR-07332RL 0805 332 Ohm ±1% 1/8W 0805 SMD -55C...+155C; Manufacturer: Yageo; BOM2: 332 Ом ±1%, 1/8 Вт, SMD 0805, RC0805FR-07332RL; ValueBOM: RC0805FR-07332RL   Yageo                            (332 Ом ±1%, 1/8 Вт, SMD 0805, RC0805FR-07332RL); Value: 332R; Part Number: RC0805FR-07332RL; Package: 0805; BOM1: 332 Ohm ±1% 1/8W 0805 SMD
footprint RESC_0805_2012N (Chip Resistor, Body 2.0x1.3mm, IPC Medium Density)
footprint RESC_0805_2012M (Chip Resistor, Body 2.0x1.3mm, IPC Low Density)
footprint RESC_0805_2012L (Chip Resistor, Body 2.0x1.3mm, IPC High Density)
pins: 1, 2

## RC0805FR-07340KL
designator R?, comment 340k
RC0805FR-07340KL 0805 340 kOhm ±1% 1/8W 0805 SMD -55C...+155C; Manufacturer: Yageo; BOM2: 340 кОм ±1%, 1/8 Вт, SMD 0805, RC0805FR-07340KL; ValueBOM: RC0805FR-07340KL   Yageo                            (340 кОм ±1%, 1/8 Вт, SMD 0805, RC0805FR-07340KL); Value: 340k; Part Number: RC0805FR-07340KL; Package: 0805; BOM1: 340 kOhm ±1% 1/8W 0805 SMD
footprint RESC_0805_2012N (Chip Resistor, Body 2.0x1.3mm, IPC Medium Density)
footprint RESC_0805_2012M (Chip Resistor, Body 2.0x1.3mm, IPC Low Density)
footprint RESC_0805_2012L (Chip Resistor, Body 2.0x1.3mm, IPC High Density)
pins: 1, 2

## RC0805FR-07340RL
designator R?, comment 340R
RC0805FR-07340RL 0805 340 Ohm ±1% 1/8W 0805 SMD -55C...+155C; Manufacturer: Yageo; BOM2: 340 Ом ±1%, 1/8 Вт, SMD 0805, RC0805FR-07340RL; ValueBOM: RC0805FR-07340RL   Yageo                            (340 Ом ±1%, 1/8 Вт, SMD 0805, RC0805FR-07340RL); Value: 340R; Part Number: RC0805FR-07340RL; Package: 0805; BOM1: 340 Ohm ±1% 1/8W 0805 SMD
footprint RESC_0805_2012N (Chip Resistor, Body 2.0x1.3mm, IPC Medium Density)
footprint RESC_0805_2012M (Chip Resistor, Body 2.0x1.3mm, IPC Low Density)
footprint RESC_0805_2012L (Chip Resistor, Body 2.0x1.3mm, IPC High Density)
pins: 1, 2

## RC0805FR-07349KL
designator R?, comment 349k
RC0805FR-07349KL 0805 349 kOhm ±1% 1/8W 0805 SMD -55C...+155C; Manufacturer: Yageo; BOM2: 349 кОм ±1%, 1/8 Вт, SMD 0805, RC0805FR-07349KL; ValueBOM: RC0805FR-07349KL   Yageo                            (349 кОм ±1%, 1/8 Вт, SMD 0805, RC0805FR-07349KL); Value: 349k; Part Number: RC0805FR-07349KL; Package: 0805; BOM1: 349 kOhm ±1% 1/8W 0805 SMD
footprint RESC_0805_2012N (Chip Resistor, Body 2.0x1.3mm, IPC Medium Density)
footprint RESC_0805_2012M (Chip Resistor, Body 2.0x1.3mm, IPC Low Density)
footprint RESC_0805_2012L (Chip Resistor, Body 2.0x1.3mm, IPC High Density)
pins: 1, 2

## RC0805FR-07349RL
designator R?, comment 349R
RC0805FR-07349RL 0805 349 Ohm ±1% 1/8W 0805 SMD -55C...+155C; Manufacturer: Yageo; BOM2: 349 Ом ±1%, 1/8 Вт, SMD 0805, RC0805FR-07349RL; ValueBOM: RC0805FR-07349RL   Yageo                            (349 Ом ±1%, 1/8 Вт, SMD 0805, RC0805FR-07349RL); Value: 349R; Part Number: RC0805FR-07349RL; Package: 0805; BOM1: 349 Ohm ±1% 1/8W 0805 SMD
footprint RESC_0805_2012N (Chip Resistor, Body 2.0x1.3mm, IPC Medium Density)
footprint RESC_0805_2012M (Chip Resistor, Body 2.0x1.3mm, IPC Low Density)
footprint RESC_0805_2012L (Chip Resistor, Body 2.0x1.3mm, IPC High Density)
pins: 1, 2

## RC0805FR-07357KL
designator R?, comment 357k
RC0805FR-07357KL 0805 357 kOhm ±1% 1/8W 0805 SMD -55C...+155C; Manufacturer: Yageo; BOM2: 357 кОм ±1%, 1/8 Вт, SMD 0805, RC0805FR-07357KL; ValueBOM: RC0805FR-07357KL   Yageo                            (357 кОм ±1%, 1/8 Вт, SMD 0805, RC0805FR-07357KL); Value: 357k; Part Number: RC0805FR-07357KL; Package: 0805; BOM1: 357 kOhm ±1% 1/8W 0805 SMD
footprint RESC_0805_2012N (Chip Resistor, Body 2.0x1.3mm, IPC Medium Density)
footprint RESC_0805_2012M (Chip Resistor, Body 2.0x1.3mm, IPC Low Density)
footprint RESC_0805_2012L (Chip Resistor, Body 2.0x1.3mm, IPC High Density)
pins: 1, 2

## RC0805FR-07357RL
designator R?, comment 357R
RC0805FR-07357RL 0805 357 Ohm ±1% 1/8W 0805 SMD -55C...+155C; Manufacturer: Yageo; BOM2: 357 Ом ±1%, 1/8 Вт, SMD 0805, RC0805FR-07357RL; ValueBOM: RC0805FR-07357RL   Yageo                            (357 Ом ±1%, 1/8 Вт, SMD 0805, RC0805FR-07357RL); Value: 357R; Part Number: RC0805FR-07357RL; Package: 0805; BOM1: 357 Ohm ±1% 1/8W 0805 SMD
footprint RESC_0805_2012N (Chip Resistor, Body 2.0x1.3mm, IPC Medium Density)
footprint RESC_0805_2012M (Chip Resistor, Body 2.0x1.3mm, IPC Low Density)
footprint RESC_0805_2012L (Chip Resistor, Body 2.0x1.3mm, IPC High Density)
pins: 1, 2

## RC0805FR-07366KL
designator R?, comment 366k
RC0805FR-07366KL 0805 366 kOhm ±1% 1/8W 0805 SMD -55C...+155C; Manufacturer: Yageo; BOM2: 366 кОм ±1%, 1/8 Вт, SMD 0805, RC0805FR-07366KL; ValueBOM: RC0805FR-07366KL   Yageo                            (366 кОм ±1%, 1/8 Вт, SMD 0805, RC0805FR-07366KL); Value: 366k; Part Number: RC0805FR-07366KL; Package: 0805; BOM1: 366 kOhm ±1% 1/8W 0805 SMD
footprint RESC_0805_2012N (Chip Resistor, Body 2.0x1.3mm, IPC Medium Density)
footprint RESC_0805_2012M (Chip Resistor, Body 2.0x1.3mm, IPC Low Density)
footprint RESC_0805_2012L (Chip Resistor, Body 2.0x1.3mm, IPC High Density)
pins: 1, 2

## RC0805FR-07366RL
designator R?, comment 366R
RC0805FR-07366RL 0805 366 Ohm ±1% 1/8W 0805 SMD -55C...+155C; Manufacturer: Yageo; BOM2: 366 Ом ±1%, 1/8 Вт, SMD 0805, RC0805FR-07366RL; ValueBOM: RC0805FR-07366RL   Yageo                            (366 Ом ±1%, 1/8 Вт, SMD 0805, RC0805FR-07366RL); Value: 366R; Part Number: RC0805FR-07366RL; Package: 0805; BOM1: 366 Ohm ±1% 1/8W 0805 SMD
footprint RESC_0805_2012N (Chip Resistor, Body 2.0x1.3mm, IPC Medium Density)
footprint RESC_0805_2012M (Chip Resistor, Body 2.0x1.3mm, IPC Low Density)
footprint RESC_0805_2012L (Chip Resistor, Body 2.0x1.3mm, IPC High Density)
pins: 1, 2

## RC0805FR-07375KL
designator R?, comment 375k
RC0805FR-07375KL 0805 375 kOhm ±1% 1/8W 0805 SMD -55C...+155C; Manufacturer: Yageo; BOM2: 375 кОм ±1%, 1/8 Вт, SMD 0805, RC0805FR-07375KL; ValueBOM: RC0805FR-07375KL   Yageo                            (375 кОм ±1%, 1/8 Вт, SMD 0805, RC0805FR-07375KL); Value: 375k; Part Number: RC0805FR-07375KL; Package: 0805; BOM1: 375 kOhm ±1% 1/8W 0805 SMD
footprint RESC_0805_2012N (Chip Resistor, Body 2.0x1.3mm, IPC Medium Density)
footprint RESC_0805_2012M (Chip Resistor, Body 2.0x1.3mm, IPC Low Density)
footprint RESC_0805_2012L (Chip Resistor, Body 2.0x1.3mm, IPC High Density)
pins: 1, 2

## RC0805FR-07375RL
designator R?, comment 375R
RC0805FR-07375RL 0805 375 Ohm ±1% 1/8W 0805 SMD -55C...+155C; Manufacturer: Yageo; BOM2: 375 Ом ±1%, 1/8 Вт, SMD 0805, RC0805FR-07375RL; ValueBOM: RC0805FR-07375RL   Yageo                            (375 Ом ±1%, 1/8 Вт, SMD 0805, RC0805FR-07375RL); Value: 375R; Part Number: RC0805FR-07375RL; Package: 0805; BOM1: 375 Ohm ±1% 1/8W 0805 SMD
footprint RESC_0805_2012N (Chip Resistor, Body 2.0x1.3mm, IPC Medium Density)
footprint RESC_0805_2012M (Chip Resistor, Body 2.0x1.3mm, IPC Low Density)
footprint RESC_0805_2012L (Chip Resistor, Body 2.0x1.3mm, IPC High Density)
pins: 1, 2

## RC0805FR-07384KL
designator R?, comment 384k
RC0805FR-07384KL 0805 384 kOhm ±1% 1/8W 0805 SMD -55C...+155C; Manufacturer: Yageo; BOM2: 384 кОм ±1%, 1/8 Вт, SMD 0805, RC0805FR-07384KL; ValueBOM: RC0805FR-07384KL   Yageo                            (384 кОм ±1%, 1/8 Вт, SMD 0805, RC0805FR-07384KL); Value: 384k; Part Number: RC0805FR-07384KL; Package: 0805; BOM1: 384 kOhm ±1% 1/8W 0805 SMD
footprint RESC_0805_2012N (Chip Resistor, Body 2.0x1.3mm, IPC Medium Density)
footprint RESC_0805_2012M (Chip Resistor, Body 2.0x1.3mm, IPC Low Density)
footprint RESC_0805_2012L (Chip Resistor, Body 2.0x1.3mm, IPC High Density)
pins: 1, 2

## RC0805FR-07384RL
designator R?, comment 384R
RC0805FR-07384RL 0805 384 Ohm ±1% 1/8W 0805 SMD -55C...+155C; Manufacturer: Yageo; BOM2: 384 Ом ±1%, 1/8 Вт, SMD 0805, RC0805FR-07384RL; ValueBOM: RC0805FR-07384RL   Yageo                            (384 Ом ±1%, 1/8 Вт, SMD 0805, RC0805FR-07384RL); Value: 384R; Part Number: RC0805FR-07384RL; Package: 0805; BOM1: 384 Ohm ±1% 1/8W 0805 SMD
footprint RESC_0805_2012N (Chip Resistor, Body 2.0x1.3mm, IPC Medium Density)
footprint RESC_0805_2012M (Chip Resistor, Body 2.0x1.3mm, IPC Low Density)
footprint RESC_0805_2012L (Chip Resistor, Body 2.0x1.3mm, IPC High Density)
pins: 1, 2

## RC0805FR-07394KL
designator R?, comment 394k
RC0805FR-07394KL 0805 394 kOhm ±1% 1/8W 0805 SMD -55C...+155C; Manufacturer: Yageo; BOM2: 394 кОм ±1%, 1/8 Вт, SMD 0805, RC0805FR-07394KL; ValueBOM: RC0805FR-07394KL   Yageo                            (394 кОм ±1%, 1/8 Вт, SMD 0805, RC0805FR-07394KL); Value: 394k; Part Number: RC0805FR-07394KL; Package: 0805; BOM1: 394 kOhm ±1% 1/8W 0805 SMD
footprint RESC_0805_2012N (Chip Resistor, Body 2.0x1.3mm, IPC Medium Density)
footprint RESC_0805_2012M (Chip Resistor, Body 2.0x1.3mm, IPC Low Density)
footprint RESC_0805_2012L (Chip Resistor, Body 2.0x1.3mm, IPC High Density)
pins: 1, 2

## RC0805FR-07394RL
designator R?, comment 394R
RC0805FR-07394RL 0805 394 Ohm ±1% 1/8W 0805 SMD -55C...+155C; Manufacturer: Yageo; BOM2: 394 Ом ±1%, 1/8 Вт, SMD 0805, RC0805FR-07394RL; ValueBOM: RC0805FR-07394RL   Yageo                            (394 Ом ±1%, 1/8 Вт, SMD 0805, RC0805FR-07394RL); Value: 394R; Part Number: RC0805FR-07394RL; Package: 0805; BOM1: 394 Ohm ±1% 1/8W 0805 SMD
footprint RESC_0805_2012N (Chip Resistor, Body 2.0x1.3mm, IPC Medium Density)
footprint RESC_0805_2012M (Chip Resistor, Body 2.0x1.3mm, IPC Low Density)
footprint RESC_0805_2012L (Chip Resistor, Body 2.0x1.3mm, IPC High Density)
pins: 1, 2

## RC0805FR-07403KL
designator R?, comment 403k
RC0805FR-07403KL 0805 403 kOhm ±1% 1/8W 0805 SMD -55C...+155C; Manufacturer: Yageo; BOM2: 403 кОм ±1%, 1/8 Вт, SMD 0805, RC0805FR-07403KL; ValueBOM: RC0805FR-07403KL   Yageo                            (403 кОм ±1%, 1/8 Вт, SMD 0805, RC0805FR-07403KL); Value: 403k; Part Number: RC0805FR-07403KL; Package: 0805; BOM1: 403 kOhm ±1% 1/8W 0805 SMD
footprint RESC_0805_2012N (Chip Resistor, Body 2.0x1.3mm, IPC Medium Density)
footprint RESC_0805_2012M (Chip Resistor, Body 2.0x1.3mm, IPC Low Density)
footprint RESC_0805_2012L (Chip Resistor, Body 2.0x1.3mm, IPC High Density)
pins: 1, 2

## RC0805FR-07403RL
designator R?, comment 403R
RC0805FR-07403RL 0805 403 Ohm ±1% 1/8W 0805 SMD -55C...+155C; Manufacturer: Yageo; BOM2: 403 Ом ±1%, 1/8 Вт, SMD 0805, RC0805FR-07403RL; ValueBOM: RC0805FR-07403RL   Yageo                            (403 Ом ±1%, 1/8 Вт, SMD 0805, RC0805FR-07403RL); Value: 403R; Part Number: RC0805FR-07403RL; Package: 0805; BOM1: 403 Ohm ±1% 1/8W 0805 SMD
footprint RESC_0805_2012N (Chip Resistor, Body 2.0x1.3mm, IPC Medium Density)
footprint RESC_0805_2012M (Chip Resistor, Body 2.0x1.3mm, IPC Low Density)
footprint RESC_0805_2012L (Chip Resistor, Body 2.0x1.3mm, IPC High Density)
pins: 1, 2

## RC0805FR-07413KL
designator R?, comment 413k
RC0805FR-07413KL 0805 413 kOhm ±1% 1/8W 0805 SMD -55C...+155C; Manufacturer: Yageo; BOM2: 413 кОм ±1%, 1/8 Вт, SMD 0805, RC0805FR-07413KL; ValueBOM: RC0805FR-07413KL   Yageo                            (413 кОм ±1%, 1/8 Вт, SMD 0805, RC0805FR-07413KL); Value: 413k; Part Number: RC0805FR-07413KL; Package: 0805; BOM1: 413 kOhm ±1% 1/8W 0805 SMD
footprint RESC_0805_2012N (Chip Resistor, Body 2.0x1.3mm, IPC Medium Density)
footprint RESC_0805_2012M (Chip Resistor, Body 2.0x1.3mm, IPC Low Density)
footprint RESC_0805_2012L (Chip Resistor, Body 2.0x1.3mm, IPC High Density)
pins: 1, 2

## RC0805FR-07413RL
designator R?, comment 413R
RC0805FR-07413RL 0805 413 Ohm ±1% 1/8W 0805 SMD -55C...+155C; Manufacturer: Yageo; BOM2: 413 Ом ±1%, 1/8 Вт, SMD 0805, RC0805FR-07413RL; ValueBOM: RC0805FR-07413RL   Yageo                            (413 Ом ±1%, 1/8 Вт, SMD 0805, RC0805FR-07413RL); Value: 413R; Part Number: RC0805FR-07413RL; Package: 0805; BOM1: 413 Ohm ±1% 1/8W 0805 SMD
footprint RESC_0805_2012N (Chip Resistor, Body 2.0x1.3mm, IPC Medium Density)
footprint RESC_0805_2012M (Chip Resistor, Body 2.0x1.3mm, IPC Low Density)
footprint RESC_0805_2012L (Chip Resistor, Body 2.0x1.3mm, IPC High Density)
pins: 1, 2

## RC0805FR-07423KL
designator R?, comment 423k
RC0805FR-07423KL 0805 423 kOhm ±1% 1/8W 0805 SMD -55C...+155C; Manufacturer: Yageo; BOM2: 423 кОм ±1%, 1/8 Вт, SMD 0805, RC0805FR-07423KL; ValueBOM: RC0805FR-07423KL   Yageo                            (423 кОм ±1%, 1/8 Вт, SMD 0805, RC0805FR-07423KL); Value: 423k; Part Number: RC0805FR-07423KL; Package: 0805; BOM1: 423 kOhm ±1% 1/8W 0805 SMD
footprint RESC_0805_2012N (Chip Resistor, Body 2.0x1.3mm, IPC Medium Density)
footprint RESC_0805_2012M (Chip Resistor, Body 2.0x1.3mm, IPC Low Density)
footprint RESC_0805_2012L (Chip Resistor, Body 2.0x1.3mm, IPC High Density)
pins: 1, 2

## RC0805FR-07423RL
designator R?, comment 423R
RC0805FR-07423RL 0805 423 Ohm ±1% 1/8W 0805 SMD -55C...+155C; Manufacturer: Yageo; BOM2: 423 Ом ±1%, 1/8 Вт, SMD 0805, RC0805FR-07423RL; ValueBOM: RC0805FR-07423RL   Yageo                            (423 Ом ±1%, 1/8 Вт, SMD 0805, RC0805FR-07423RL); Value: 423R; Part Number: RC0805FR-07423RL; Package: 0805; BOM1: 423 Ohm ±1% 1/8W 0805 SMD
footprint RESC_0805_2012N (Chip Resistor, Body 2.0x1.3mm, IPC Medium Density)
footprint RESC_0805_2012M (Chip Resistor, Body 2.0x1.3mm, IPC Low Density)
footprint RESC_0805_2012L (Chip Resistor, Body 2.0x1.3mm, IPC High Density)
pins: 1, 2

## RC0805FR-07433KL
designator R?, comment 433k
RC0805FR-07433KL 0805 433 kOhm ±1% 1/8W 0805 SMD -55C...+155C; Manufacturer: Yageo; BOM2: 433 кОм ±1%, 1/8 Вт, SMD 0805, RC0805FR-07433KL; ValueBOM: RC0805FR-07433KL   Yageo                            (433 кОм ±1%, 1/8 Вт, SMD 0805, RC0805FR-07433KL); Value: 433k; Part Number: RC0805FR-07433KL; Package: 0805; BOM1: 433 kOhm ±1% 1/8W 0805 SMD
footprint RESC_0805_2012N (Chip Resistor, Body 2.0x1.3mm, IPC Medium Density)
footprint RESC_0805_2012M (Chip Resistor, Body 2.0x1.3mm, IPC Low Density)
footprint RESC_0805_2012L (Chip Resistor, Body 2.0x1.3mm, IPC High Density)
pins: 1, 2

## RC0805FR-07433RL
designator R?, comment 433R
RC0805FR-07433RL 0805 433 Ohm ±1% 1/8W 0805 SMD -55C...+155C; Manufacturer: Yageo; BOM2: 433 Ом ±1%, 1/8 Вт, SMD 0805, RC0805FR-07433RL; ValueBOM: RC0805FR-07433RL   Yageo                            (433 Ом ±1%, 1/8 Вт, SMD 0805, RC0805FR-07433RL); Value: 433R; Part Number: RC0805FR-07433RL; Package: 0805; BOM1: 433 Ohm ±1% 1/8W 0805 SMD
footprint RESC_0805_2012N (Chip Resistor, Body 2.0x1.3mm, IPC Medium Density)
footprint RESC_0805_2012M (Chip Resistor, Body 2.0x1.3mm, IPC Low Density)
footprint RESC_0805_2012L (Chip Resistor, Body 2.0x1.3mm, IPC High Density)
pins: 1, 2

## RC0805FR-07443KL
designator R?, comment 443k
RC0805FR-07443KL 0805 443 kOhm ±1% 1/8W 0805 SMD -55C...+155C; Manufacturer: Yageo; BOM2: 443 кОм ±1%, 1/8 Вт, SMD 0805, RC0805FR-07443KL; ValueBOM: RC0805FR-07443KL   Yageo                            (443 кОм ±1%, 1/8 Вт, SMD 0805, RC0805FR-07443KL); Value: 443k; Part Number: RC0805FR-07443KL; Package: 0805; BOM1: 443 kOhm ±1% 1/8W 0805 SMD
footprint RESC_0805_2012N (Chip Resistor, Body 2.0x1.3mm, IPC Medium Density)
footprint RESC_0805_2012M (Chip Resistor, Body 2.0x1.3mm, IPC Low Density)
footprint RESC_0805_2012L (Chip Resistor, Body 2.0x1.3mm, IPC High Density)
pins: 1, 2

## RC0805FR-07443RL
designator R?, comment 443R
RC0805FR-07443RL 0805 443 Ohm ±1% 1/8W 0805 SMD -55C...+155C; Manufacturer: Yageo; BOM2: 443 Ом ±1%, 1/8 Вт, SMD 0805, RC0805FR-07443RL; ValueBOM: RC0805FR-07443RL   Yageo                            (443 Ом ±1%, 1/8 Вт, SMD 0805, RC0805FR-07443RL); Value: 443R; Part Number: RC0805FR-07443RL; Package: 0805; BOM1: 443 Ohm ±1% 1/8W 0805 SMD
footprint RESC_0805_2012N (Chip Resistor, Body 2.0x1.3mm, IPC Medium Density)
footprint RESC_0805_2012M (Chip Resistor, Body 2.0x1.3mm, IPC Low Density)
footprint RESC_0805_2012L (Chip Resistor, Body 2.0x1.3mm, IPC High Density)
pins: 1, 2

## RC0805FR-07454KL
designator R?, comment 454k
RC0805FR-07454KL 0805 454 kOhm ±1% 1/8W 0805 SMD -55C...+155C; Manufacturer: Yageo; BOM2: 454 кОм ±1%, 1/8 Вт, SMD 0805, RC0805FR-07454KL; ValueBOM: RC0805FR-07454KL   Yageo                            (454 кОм ±1%, 1/8 Вт, SMD 0805, RC0805FR-07454KL); Value: 454k; Part Number: RC0805FR-07454KL; Package: 0805; BOM1: 454 kOhm ±1% 1/8W 0805 SMD
footprint RESC_0805_2012N (Chip Resistor, Body 2.0x1.3mm, IPC Medium Density)
footprint RESC_0805_2012M (Chip Resistor, Body 2.0x1.3mm, IPC Low Density)
footprint RESC_0805_2012L (Chip Resistor, Body 2.0x1.3mm, IPC High Density)
pins: 1, 2

## RC0805FR-07454RL
designator R?, comment 454R
RC0805FR-07454RL 0805 454 Ohm ±1% 1/8W 0805 SMD -55C...+155C; Manufacturer: Yageo; BOM2: 454 Ом ±1%, 1/8 Вт, SMD 0805, RC0805FR-07454RL; ValueBOM: RC0805FR-07454RL   Yageo                            (454 Ом ±1%, 1/8 Вт, SMD 0805, RC0805FR-07454RL); Value: 454R; Part Number: RC0805FR-07454RL; Package: 0805; BOM1: 454 Ohm ±1% 1/8W 0805 SMD
footprint RESC_0805_2012N (Chip Resistor, Body 2.0x1.3mm, IPC Medium Density)
footprint RESC_0805_2012M (Chip Resistor, Body 2.0x1.3mm, IPC Low Density)
footprint RESC_0805_2012L (Chip Resistor, Body 2.0x1.3mm, IPC High Density)
pins: 1, 2